# EAGLE library part ADG707-BOB (library mmoretti)
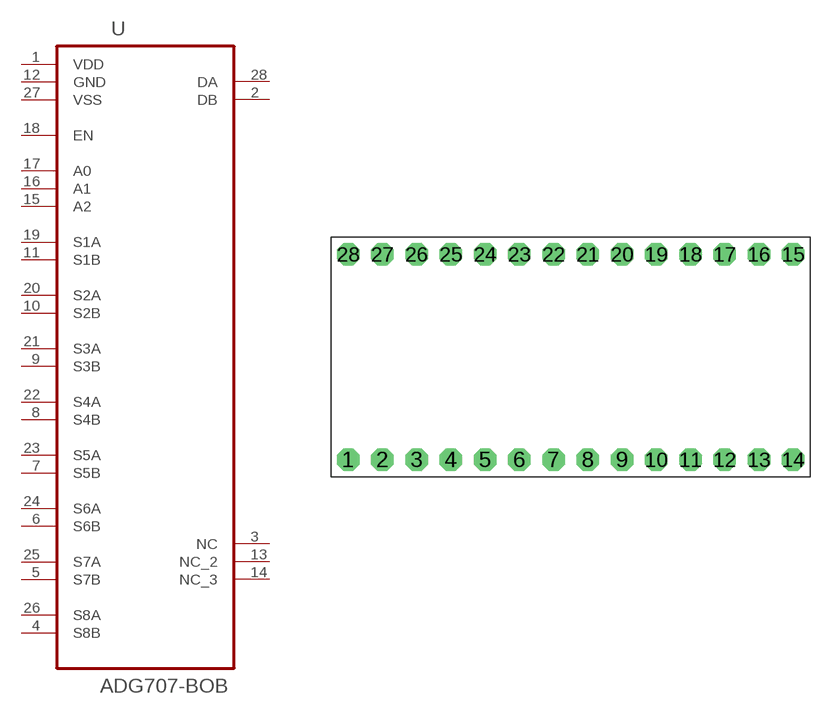
[diagram p8: symbol with the pads of BOB-14X7; footprint BOB-14X7]

Designator prefix -

## ADG707-BOB  [BOB-14X7]
1  VDD  pwr
2  DB  out
3  NC  nc
4  S8B  in
5  S7B  in
6  S6B  in
7  S5B  in
8  S4B  in
9  S3B  in
10  S2B  in
11  S1B  in
12  GND  pas
13  NC_2  nc
14  NC_3  nc
15  A2  in
16  A1  in
17  A0  in
18  EN  in
19  S1A  in
20  S2A  in
21  S3A  in
22  S4A  in
23  S5A  in
24  S6A  in
25  S7A  in
26  S8A  in
27  VSS  pas
28  DA  out

## Footprint BOB-14X7 (pad centres in mm)
drill 1.016 pad 1.676 octagon: 1 -16.51,-6.35; 2 -13.97,-6.35; 3 -11.43,-6.35; 4 -8.89,-6.35; 5 -6.35,-6.35; 6 -3.81,-6.35; 7 -1.27,-6.35; 8 1.27,-6.35; 9 3.81,-6.35; 10 6.35,-6.35; 11 8.89,-6.35; 12 11.43,-6.35; 13 13.97,-6.35; 14 16.51,-6.35; 15 16.51,8.89; 16 13.97,8.89; 17 11.43,8.89; 18 8.89,8.89; 19 6.35,8.89; 20 3.81,8.89; 21 1.27,8.89; 22 -1.27,8.89; 23 -3.81,8.89; 24 -6.35,8.89; 25 -8.89,8.89; 26 -11.43,8.89; 27 -13.97,8.89; 28 -16.51,8.89